# Altium schematic symbol library flat.SchLib: 4 symbols
Pins are listed as number, name and electrical type; pins without a type are passive.

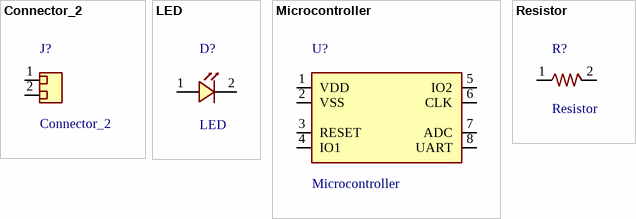
[diagram p0: symbols Connector_2 to Resistor]

## Connector_2
designator J?
Generic two-circuit connector
pins: 1 Passive, 2 Passive

## LED
designator D?
Generic light-emitting diode
pins: 1 A, 2 K

## Microcontroller
designator U?
Conceptual controller block; not a device pinout
pins: 1 VDD, 2 VSS, 3 RESET, 4 IO1, 5 IO2, 6 CLK, 7 ADC, 8 UART

## Resistor
designator R?
Generic two-terminal resistor
pins: 1 A, 2 B